# Altium schematic symbol library ethernet.SCHLIB: 3 symbols
Pins are listed as number, name and electrical type; pins without a type are passive.

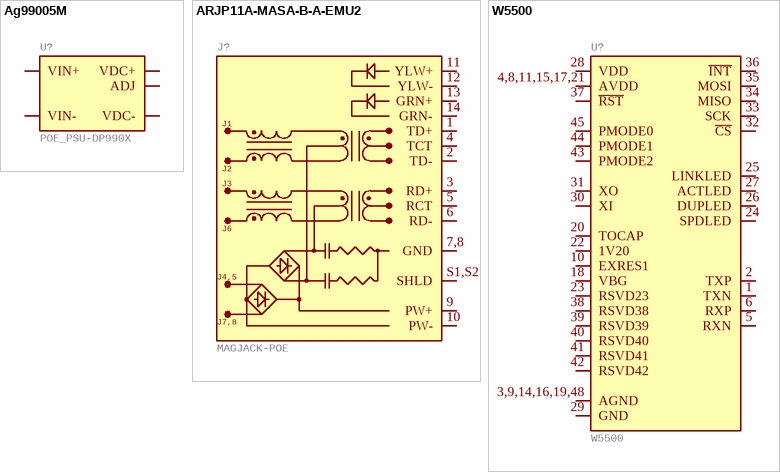
[diagram p0: symbols Ag99005M to W5500]

## Ag99005M
designator U?, comment POE_PSU-DP990X
Ag99005M; GateName_1: U1; PROD_ID: IC-16251; SymbolName_1: POE_PSU; DeviceName: -DP990X; LibraryName: SparkFun-IC-Power; DeviceSetName: POE_PSU
footprint DP990X
pins: 1,2 VDC+, 3 VDC-, 4 ADJ, 5,6 VIN+, 7,8 VIN-

## ARJP11A-MASA-B-A-EMU2
designator J?, comment MAGJACK-POE
ARJP11A-MASA-B-A-EMU2; GateName_1: J1; SymbolName_1: MAGJACK_POE_SYMMETRICAL; PROD_ID: CONN-16253; LibraryName: SparkFun-Connectors; DeviceSetName: MAGJACK-POE; J1: J1; J2: J2; J3: J3; J6: J6; J4,5: J4,5; J7,8: J7,8
footprint MAGJACK-SYM_LED
pins: 1 TD+, 2 TD-, 3 RD+, 4 TCT, 5 RCT, 6 RD-, 7,8 GND, 9 PW+, 10 PW-, 11 YLW+, 12 YLW-, 13 GRN+, 14 GRN-, S1,S2 SHLD

## W5500
designator U?
GateName_1: U1; PROD_ID: IC-16240; SymbolName_1: W5500; LibraryName: SparkFun-IC-Comms; DeviceSetName: W5500
footprint LQFP-48
pins: 1 TXN, 2 TXP, 3,9,14,16,19,48 AGND, 4,8,11,15,17,21 AVDD, 5 RXN, 6 RXP, 10 EXRES1, 18 VBG, 20 TOCAP, 22 1V20, 23 RSVD23, 24 SPDLED, 25 LINKLED, 26 DUPLED, 27 ACTLED, 28 VDD, 29 GND, 30 XI, 31 XO, 32 ~{CS}, 33 SCK, 34 MISO, 35 MOSI, 36 ~{INT}, 37 ~{RST}, 38 RSVD38, 39 RSVD39, 40 RSVD40, 41 RSVD41, 42 RSVD42, 43 PMODE2, 44 PMODE1, 45 PMODE0